# EAGLE library part MCP79510 (library hoky)
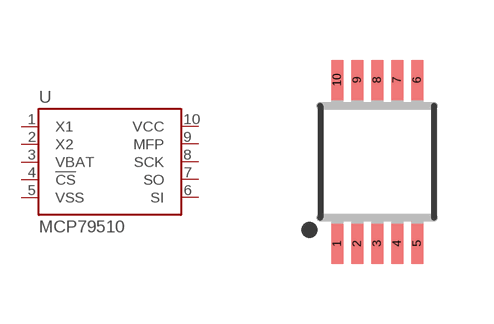
[diagram p4: symbol with the pads of MSOP10; footprint MSOP10]

Designator prefix U

## MCP79510  [MSOP10]
1  X1
2  X2
3  VBAT
4  !CS
5  VSS
6  SI
7  SO
8  SCK
9  MFP
10  VCC

## Footprint MSOP10 (pad centres in mm)
smd 0.3 x 1: 1 -1,-2.05; 2 -0.5,-2.05; 3 0,-2.05; 4 0.5,-2.05; 5 1,-2.05; 6 1,2.05; 7 0.5,2.05; 8 0,2.05; 9 -0.5,2.05; 10 -1,2.05